# Altium schematic symbol library Passive.SchLib: 16 symbols
Pins are listed as number, name and electrical type; pins without a type are passive.

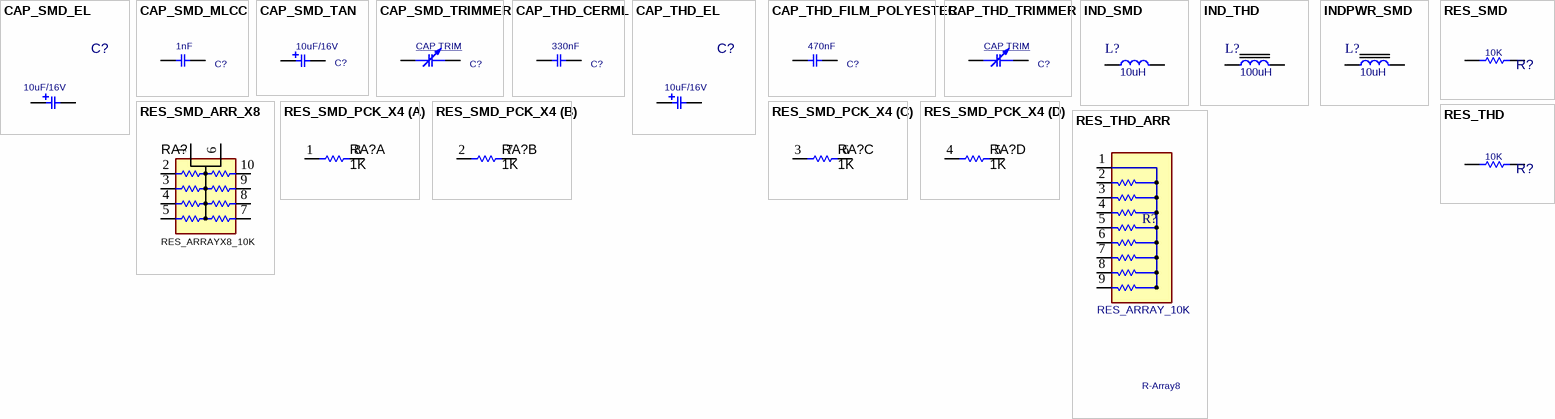
[diagram p0: symbols CAP_SMD_EL to RES_THD_ARR]

## CAP_SMD_EL
designator C?, comment 10uF/16V
CAP, THD, ELEC; MANF_P#: MANF_PART#; PARAM2: 20%; DESC: DESCRIPTION; DIST#: MOUSER; PARAM: 25V; PRICE: 10= 5$; MANF: MANF; ASSEMBLY: ASSEMBLY; VALUE: 10uF/16V
footprint C_EL_8 (Electrolytic Cap, Size E, Size F, 8.3X10)
footprint C_EL_4 (Electrolytic Cap, D: 4.3mm, Size B)
footprint C_EL_5 (Electrolytic Cap, D: 5.0mm, Size C)
footprint C_EL_6 (Electrolytic Cap, D: 6.3mm L: 7.7mm, Size D)
footprint C_EL_10 (Electrolytic Cap, 10.3x10.3mm)
footprint C_EL_12 (Electrolytic Cap, 12.5x13mm)
pins: 1, 2

## CAP_SMD_MLCC
designator C?, comment 1nF
CAP, SMD, MLCC; PARAM: 50V; DESC: CAP, MLCC, 1nF, 50V, C0G, 10%, 0402; MANF_P#: MANF_PART#; MANF: Murata; PARAM2: C0G, 10%; PRICE: 100= 1$; ASSEMBLY: ASSEMBLY; VALUE: 1nF
footprint C0402 (CHIP Capacitor, 1.0X0.5mm, 0402)
footprint C0603 (CHIP Capacitor, 1.6X0.8mm, 0603)
footprint C0805 (CHIP Capacitor, 2.0X1.3mm, 0805)
footprint C1206 (CHIP Capacitor, 3.2X1.6mm, 1206)
footprint C1210 (CHIP Capacitor, 3.2X2.5mm, 1210, 3225)
footprint C0508 (CHIP Capacitor, 1.3X2.0mm, 0508)
footprint C1020 (CHIP Capacitor, 2.50x5.00mm)
footprint C1808 (CHIP Capacitor, 4.6X2.0mm, 1808, 1806, 4620, 4520)
footprint C1812 (Chip Capacitor, 4.5x3.2mm, 1612, 1812, 4532)
footprint C1825 (Chip Capacitor, 4.5x6.4mm, 1825, 4564)
footprint C2225 (Chip Capacitor, 5.6x6.4mm, 2225, 5664)
footprint C2512 (Chip Capacitor, 6.4x3.2mm, 2512, 6432)
pins: 1, 2

## CAP_SMD_TAN
designator C?, comment 10uF/16V
CAP, SMD, TAN; PARAM: 25V; VALUE: 10uF/16V
footprint C_TN_2012 (CAPACITOR, TAN N, TAN P, TAN R, 0805P, 2X1.3mm)
footprint C_TN_3216 (CAPACITOR, TAN A, 1206P, 3.2x1.6mm)
footprint C_TN_3528 (CAPACITOR, TAN B, TAN H, TAN T, TAN M, 3528P, 1210P, 3.5X2.8mm)
footprint C_TN_6032 (CAPACITOR, TAN C, TAN F, TAN U, TAN L, 6032P, 6.0X3.2mm)
footprint C_TN_7343 (CAPACITOR, TAN D, TAN E, TAN Y, TAN X, 7343P, 7.3X4.3mm)
footprint C_TN_7361 (CAPACITOR, TAN V, 2924, 7361, 7.3X6.1mm)
pins: 1, 2

## CAP_SMD_TRIMMER
designator C?, comment CAP TRIM
CAP, SMD, TRIMMER; MANF_P#: MANF_PART#; PARAM: PARAM; PRICE: 100= 1$; DESC: CAP, SMD, TRIMMER; MANF: MANF; PARAM2: PARAM2; ASSEMBLY: ASSEMBLY; VALUE: CAP TRIM
footprint C_TRM_1715 (Cap, Trimmer TZR1 1.7mmX1.5mm)
footprint C_TRM_3225 (Cap, Trimmer TZY2 3.2mmX2.5mm)
footprint C_TRM_4532 (Cap, Trimmer TZC3 4.5X3.2mm)
footprint C_TRM_4842 (Cap, Trimmer SMD 4.8x4.2mm)
pins: 1, 2

## CAP_THD_CERML
designator C?, comment 330nF
CAP, THD, CER MULTI LAYER; PARAM: 50V; DESC: CAP, CER MULTI LAYER,; MANF_P#: MANF_PART#; PRICE: 100= 1$; MANF: MANF; PARAM2: PARAM2; ASSEMBLY: ASSEMBLY; VALUE: 330nF
footprint C_CER_D3 (CAP, CER MULTILAYER, D:3.5mm, pitch: 2.54mm)
footprint C_CER_D5 (CAP, CER, D:5mm, pitch: 2.5mm)
footprint C_CER_D6A (CAP, CER MULTILAYER, 5.8X1.7mm, pitch: 2.5mm)
footprint C_CER_D6B (CAP, CER MULTILAYER, 6X2mm, pitch: 5mm)
footprint C_CER_D7A (CAP, CER MULTILAYER, 7.0X1.7mm, pitch: 5.0mm)
footprint C_CER_D7B (CAP, CER MULTILAYER, 7.0X2.6mm, pitch: 5.0mm)
footprint C_CER_D10 (CAP, CER MULTILAYER, 12X4mm, pitch: 7.5mm)
footprint C_CER_D12 (CAP, CER MULTILAYER, 12X4mm, pitch: 7.5mm)
footprint C_CER_M4 (CAP, CER MULTILAYER, 4.2X2.0mm, pitch: 5.0mm, TDK FK24)
footprint C_CER_M5 (CAP, CER MULTILAYER, 5.0X2.5mm, pitch: 2.5mm, RAD0.1)
pins: 1, 2

## CAP_THD_EL
designator C?, comment 10uF/16V
CAP, THD, ELEC,; MANF_P#: MANF_PART#; PARAM2: 20%; DESC: DESCRIPTION; DIST#: MOUSER; PARAM: 25V; PRICE: 10= 5$; MANF: MANF; ASSEMBLY: ASSEMBLY; VALUE: 10uF/16V
footprint C_EL_8X12 (Cap Elec, D8.0X12.0H pitch: 3.5mm, RB.14/.26, RB.15/.32)
footprint C_EL_4X7 (Cap Elec, D4.0X7.0H pitch: 1.5mm)
footprint C_EL_5X7 (Cap Elec, D5.0X7.0H pitch: 2mm)
footprint C_EL_5X11 (Cap Elec, D5.0X11.0H pitch: 2mm)
footprint C_EL_6X11 (Cap Elec, D6.3X11.0H pitch: 2.5mm)
footprint C_EL_8X12 (Cap Elec, D8.0X12.0H pitch: 3.5mm, RB.14/.26, RB.15/.32)
footprint C_EL_8X12R (Cap Elec, D8.0X12.0H pitch: 3.5mm, RIGHT ANGLE)
footprint C_EL_10X20 (Cap Elec, D10.0X20.0H pitch: 5.0mm, RB.2/.4)
footprint C_EL_12X25 (Cap Elec, D12.0X25.0H pitch: 5.0mm, RB.2/.5)
footprint C_EL_16X25 (Cap Elec, D16.0X25.0H pitch: 7.6mm, RB.3/.6)
footprint C_EL_18X35 (Cap Elec, D18.0X35.0H pitch: 7.6mm, RB.3/.7)
footprint C_EL_20X35 (Cap Elec, D20.0X35.0H pitch: 10.0mm, RB.4/.8)
footprint C_EL_25X40 (Cap Elec, D25.0X40.0H pitch: 12.8mm, RB.5/1)
footprint C_EL_30X50 (Cap Elec, D30.0X50.0H pitch: 10.0mm)
footprint C_EL_35X30 (Cap Elec, D35.0X30.0H pitch: 10.0mm, 470uF/400V, RB.44/1.3)
footprint C_EL_10X12 (Footprint not found)
footprint C_EL_6X12_R (Footprint not found)
pins: 1, 2

## CAP_THD_FILM_POLYESTER
designator C?, comment 470nF
CAP, FILM; PARAM: 400V; DESC: CAP, FILM,; MANF_P#: MANF_PART#; PRICE: 100= 1$; MANF: MANF; PARAM2: PARAM2; ASSEMBLY: ASSEMBLY; VALUE: 470nF
footprint C_PLY_7X2 (CAP, POLYESTER, 7.5X2.5mm pitch: 5.0mm)
footprint C_PLY_19X8 (CAP, POLYESTER, 19.0X8.0mm pitch: 15.0mm, 0.22uF 400V)
footprint C_PLY_22X7 (CAP, POLYESTER, 33.0X7.0mm pitch: 20.0mm, 0.68uF 400V)
footprint C_PLY_6X3 (Footprint not found)
footprint C_PLY_26X9 (Footprint not found)
footprint C_PLY_26X8 (Footprint not found)
footprint C_PLY_10X6X9 (Footprint not found)
footprint C_PLY_10X6X12 (Footprint not found)
footprint C_PLY_7X5 (Capacitor, THT, Metallized Polyester Film)
footprint C_PLY_7X6 (Capacitor, THT, Metallized Polyester Film)
footprint C_PLY_7X6_5 (Capacitor, THT, Metallized Polyester Film)
footprint C_PLY_10X5 (Capacitor, THT, Metallized Polyester Film)
footprint C_PLY_10X8 (Capacitor, THT, Metallized Polyester Film, 5 & 7.5mm pitch hybrid)
footprint C_PLY_12X4 (Capacitor, MF, Thru-Hole, Dipped Radial; Body 12.5 x 4.5 x 9.0 mm (WxTxH) Pin Spacing 10.0 mm (typ))
pins: 1, 2

## CAP_THD_TRIMMER
designator C?, comment CAP TRIM
CAP, THD, TRIMMER; DESC: CAP, SMD, TRIMMER; MANF_P#: MANF_PART#; PARAM: PARAM; PRICE: 100= 1$; MANF: MANF; PARAM2: PARAM2; ASSEMBLY: ASSEMBLY; VALUE: CAP TRIM
footprint CTRM_6X6
footprint CTRM_10X10 (Trimmer Capacitor 10X10mm 3P)
pins: 1, 2

## IND_SMD
designator L?, comment 10uH
IND, SMD; VALUE: 10uH
footprint L0603 (INDUCTOR, FERRITE BEAD, 0603, 1.6X0.8mm)
footprint L0805 (INDUCTOR, FERRITE BEAD, 0805, 2.0X1.3mm)
footprint L1206 (INDUCTOR, FERRITE BEAD, 1206, 3.2X1.6mm)
pins: 1, 2

## IND_THD
designator L?, comment 100uH
IND, THD; VALUE: 100uH
footprint LTOR_15X6 (INDUCTOR, TORIOD, 15.0X6.0mm)
footprint LTOR_25X10 (INDUCTOR, TORIOD, 25.0X10.0mm)
pins: 1, 2

## INDPWR_SMD
designator L?, comment 10uH
IND, PWR, SMD; VALUE: 10uH
footprint L_12 (INDUCTOR, 13.5x12.5mm, DR125, CDRH127, D128C 931AS)
footprint L_3 (INDUCTOR, 3.0X3.2mm, VLS3012)
footprint L_4 (INDUCTOR, 3.8x3.8mm, 3.7x3.5mm, WURTH 744031470)
footprint L_5 (INDUCTOR, 5.0X5.0mm)
footprint L_6 (INDUCTOR, 6.0X6.0mm)
footprint L_7 (INDUCTOR, 7.2X6.9mm, 7.1X6.5mm, SPM6530)
footprint L_8 (INDUCTOR, 7.5X7.5mm, 8x8, DR74)
footprint L_10 (INDUCTOR, 10.35X10.35mm, CDRH104R, MSS1038 (coilcraft))
footprint L_2 (INDUCTOR, 2.0X2.0mm)
footprint L1007 (INDUCTOR, 2518 [1007], 2.5X1.8mm)
footprint L1008 (INDUCTOR, 2520 1008, 2.5X2.0mm)
pins: 1, 2

## RES_SMD
designator R?, comment 10K
RES, SMD; MANF_P#: RK73H1ETTP4701F; MANF: KOA SPEER; PARAM: 0.063W; DESC: DESCRIPTION; DIST#: MOUSER; PARAM2: 1%; ASSEMBLY: ASSEMBLY; PRICE: 100= 0.5$; VALUE: 10K
footprint R0402 (CHIP Resistor 1/16 WATT, 1.0X0.5mm, 0402, 1005)
footprint R0603 (CHIP Resistor 1/10 WATT, 1.6x0.8mm, 0603, 1608)
footprint R0805 (CHIP RESISTOR 1/8 WATT ,2.0X1.3mm, 0805, 2012)
footprint R1206 (CHIP RESISTOR 1/4 WATT, Body 3.2x1.6mm,1206, 3216)
footprint R2512 (CHIP RESISTOR 1 WATT, 6.4X3.2mm, 2512, 6432)
footprint R2010 (CHIP RESISTOR 3/4 WATT, 5.1x3mm, 2010, 5025)
footprint R1210 (CHIP RESISTOR 1/2 WATT, Body 3.2x2.5mm,1210, 3225)
pins: 1, 2

## RES_SMD_ARR_X8
designator RA?, comment RES_ARRAYX8_10K
RES, SMD, ARRX8; PARAM: 5%; MANF: Panasonic - ECG; MANF_P#: EXB-E10C103J; Value: RES_ARRAYX8_10K
footprint RARRX8_4021 (Resistor ARRAY X8, SMD, 4.0x2.1mm)
pins: 1 COM, 2, 3, 4, 5, 6 COM, 7, 8, 9, 10

## RES_SMD_PCK_X4
designator RA?, comment value 1K  (hidden comment: Film Res Pack)
RES, SMD, PCKX4; MANF_P#: MANF_PART#; MANF: MANF
footprint RP0603X4 (RPACK, 0603X4, 160X80X4 1206)
footprint RP0402X4 (RPACK, 0804, 0402X4, 100X50X4, 2.00x1.00mm)
part A pins: 1, 8
part B pins: 2, 7
part C pins: 3, 6
part D pins: 4, 5

## RES_THD
designator R?, comment 10K
RES, THD; MANF_P#: RK73H1ETTP4701F; MANF: KOA SPEER; PARAM: 0.063W; DESC: DESCRIPTION; DIST#: MOUSER; PARAM2: 1%; ASSEMBLY: ASSEMBLY; PRICE: 100= 0.5$; VALUE: 10K
footprint R0125W_AX025 (RESISTOR 1/8 WATT, AXIAL0.25)
footprint R1W_AX06 (RESISTOR 1 WATT, AXIAL0.6)
footprint R2W_AX08 (RESISTOR 2 WATT, AXIAL0.8)
footprint R2W_AX_VER (RESISTOR 2 WATT, AXIAL0.8)
footprint R3W_AX09 (RESISTOR 3 WATT, AXIAL0.9)
footprint R4W_AX10 (RESISTOR 4 WATT, AXIAL1.0)
footprint R05W_AX05 (RESISTOR 0.5 WATT, AXIAL0.5)
footprint R5W_AX11 (RESISTOR 5 WATT, AXIAL1.1)
footprint R5W_VER (RESISTOR 5 WATT, AXIAL1.1)
footprint R025W_AX04 (RESISTOR 1/4 WATT, AXIAL0.4)
footprint R025W_AX_VER (RESISTOR 1/4 WATT, AXIAL0.4)
footprint R0125W_AX03 (RESISTOR 1/8 WATT, AXIAL0.3 INCH SPACING)
footprint R0125W_AX_VER (RESISTOR 1/8 WATT, AXIAL0.25)
footprint RWW2W_VER (RESISTOR 2 WATT, Wirewound)
footprint RWW10W_VER (RESISTOR 10 WATT, Wirewound)
footprint R10W_AX11 (RESISTOR 10 WATT, AXIAL1.1)
footprint R10W_AX14 (RESISTOR 10 WATT, AXIAL1.4)
footprint R10W_AX20 (RESISTOR 10 WATT, AXIAL2.0)
footprint RWW5W (Footprint not found)
footprint RWW5W_VER (Footprint not found)
pins: 1, 2

## RES_THD_ARR
designator R?, comment R-Array8  value RES_ARRAY_10K
RES, THD, ARR, 8RES
footprint RES_ARRAYX8
pins: 1, 2, 3, 4, 5, 6, 7, 8, 9